# EAGLE library part HV823 (library HV823)
The Supertex HV823 is a high-voltage driver designed for driving EL lamps of up to 50nF. EL lamps greater than 50nF can be driven for applications not requiring high brightness. The input supply voltage range is from 2.0V to 9.5V. The device uses a single inductor and a minimum number of passive components. The nominal regulated output voltage that is applied to the EL lamp is ±90V. The chip can be enabled by connecting the resistors on the RSW-Osc pin and the REL-Osc pin to the VDD pin, and disabled when connected to GND.
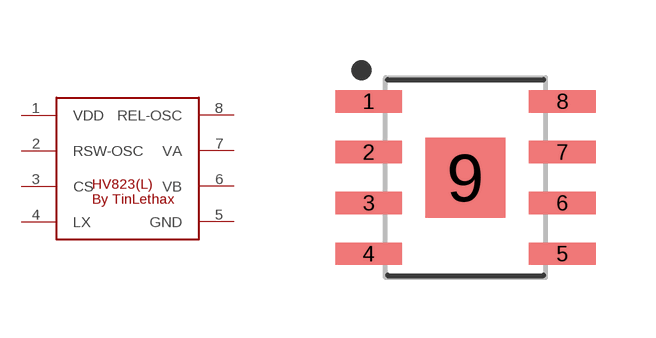
[diagram p0: symbol with the pads of SOIC127P600X175-9T200L; footprint SOIC127P600X175-9T200L]

Designator prefix -

## HV823 (PACKAGE: 8-SOIC; PARTNO: HV823)  [SOIC127P600X175-9T200L]
1  VDD
2  RSW-OSC
3  CS
4  LX
5  GND
6  VB
7  VA
8  REL-OSC

## Footprint SOIC127P600X175-9T200L (pad centres in mm)
8-SOIC, 1.27 mm pitch, 6.00 mm span, 4.90 X 3.90 X 1.75 mm body, 2.00 X 2.00 mm thermal pad 8-pin SOIC package with 1.27 mm pitch, 6.00 mm span with body size 4.90 X 3.90 X 1.75 mm and thermal pad size 2.00 X 2.00 mm
smd 1.669 x 0.559: 1 -2.423,1.905; 2 -2.423,0.635; 3 -2.423,-0.635; 4 -2.423,-1.905; 5 2.423,-1.905; 6 2.423,-0.635; 7 2.423,0.635; 8 2.423,1.905
smd 2 x 2: 9 0,0